# Altium footprint library SMPS150.PcbLib: 39 footprints (part 3 of 3)
Each footprint in its own frame and in the unit in brackets; x right, y up, seen from the top. Pads: shape width x height; smd on the part's side, far side on the other; paste and mask are expansions set on the pad; w line width, h text height; cw(c..) or ccw(c..) is an arc to the next point about the centre after c.
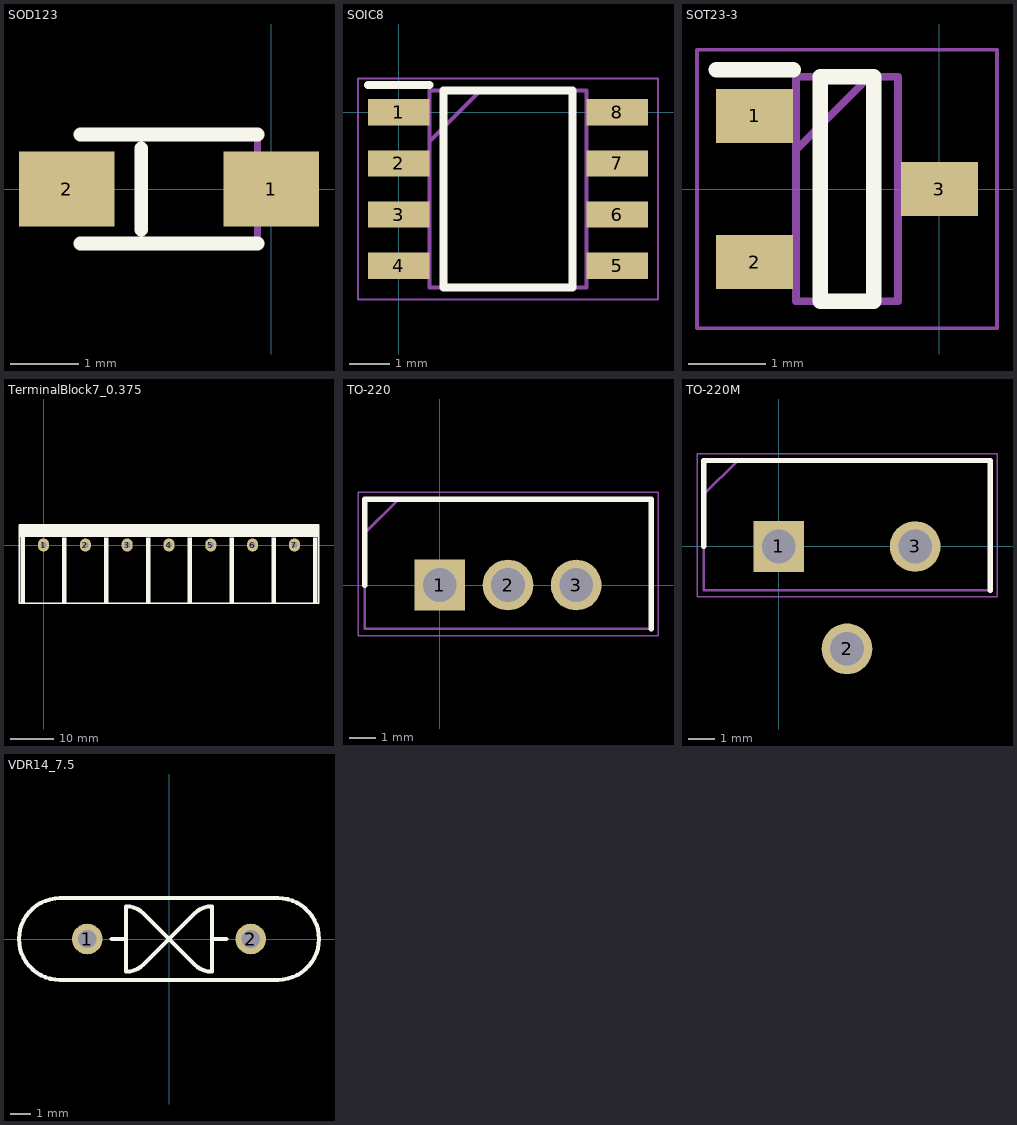
[diagram p2: the footprints below, top view; thin cyan lines are the x and y axes]

## SOD123 [mm]
height 1.35
pads (2):
  rect 1.4x1.1 smd: 1(0,0) 2(-3,0)
Top Overlay:
  lines w0.2: -2.8,-0.8 -0.2,-0.8 ; -2.8,0.8 -0.2,0.8 ; -1.905,-0.6 -1.905,0.6
Mechanical 13:
  lines w0.1: -2.8,-0.8 -0.2,-0.8 -0.2,0.8 -2.8,0.8
3D body "PMEG6010CEH.stp": height 1.2, standoff 0, extent -2.8,-0.8 -0.2,0.8

## SOIC8 [mm]
height 1.35
pads (8):
  rect 1.525x0.65 smd: 1(0,0) 2(0,-1.27) 3(0,-2.54) 4(0,-3.81) 5(5.424,-3.81) 6(5.424,-2.54) 7(5.424,-1.27) 8(5.424,0)
Top Overlay:
  lines w0.2: -0.763,0.675 0.762,0.675 ; 1.112,-4.355 1.112,0.545 4.312,0.545 4.312,-4.355 1.112,-4.355
Mechanical 13:
  lines w0.1: 0.762,-0.725 2.032,0.545 ; 0.762,-4.355 0.762,0.545 4.662,0.545 4.662,-4.355 0.762,-4.355
Mechanical 15:
  lines w0.05: -1.013,-4.655 -1.013,0.845 6.437,0.845 6.437,-4.655 -1.013,-4.655
3D body "User Library-so-8.STEP": height 1.89, standoff -0.01, extent -0.47,-4.454 5.869,0.55

## SOT23-3 [mm]
height 1.35
pads (3):
  rect 1x0.7 smd: 1(-2.4,0.95) 2(-2.4,-0.95) 3(0,0)
Top Overlay:
  lines w0.2: -2.9,1.55 -1.9,1.55 ; -1.55,-1.46 -0.85,-1.46 -0.85,1.46 -1.55,1.46 -1.55,-1.46
Mechanical 13:
  lines w0.1: -1.862,0.51 -0.912,1.46 ; -1.862,-1.46 -0.538,-1.46 -0.538,1.46 -1.862,1.46 -1.862,-1.46
Mechanical 15:
  lines w0.05: -3.15,-1.81 0.75,-1.81 0.75,1.81 -3.15,1.81 -3.15,-1.81
3D body "MMBT3906.stp": height 1.2, standoff 0, extent -2.4,-1.46 0,1.46

## TerminalBlock7_0.375 [mm]
height 1.35
pads (7):
  oval 2.5x3 hole 1.4: 1(0,0) 2(9.525,0) 3(19.05,0) 4(28.575,0) 5(38.1,0) 6(47.625,0) 7(57.15,0)
Top Overlay:
  rectangle: -5.588,1.778 62.738,4.572
  rectangle: 4.256,-13.091 5.272,1.768
  rectangle: 13.781,-13.091 14.797,1.768
  rectangle: 23.306,-13.091 24.322,1.768
  rectangle: 32.831,-13.091 33.847,1.768
  rectangle: 42.356,-13.091 43.372,1.768
  rectangle: 51.881,-13.091 52.897,1.768
  rectangle: 61.406,-13.091 62.422,1.768
  region: -4.256,1.788 -5.272,1.788 -5.272,-13.071 -4.256,-13.071
  lines w0.3: -5.588,-13.208 57.15,-13.208 62.738,-13.208 62.738,4.572 -5.588,4.572 -5.588,-13.208
3D body "c-1437653-7-p-3d.stp": height 15.88, standoff -5.08, extent -5.537,-13.208 62.687,4.572

## TO-220 [mm]
height 1.35
pads (3):
  rect 1.89x1.89 hole 1.26: 1(0,0)
  round 1.89 hole 1.26: 2(2.54,0) 3(5.08,0)
Top Overlay:
  lines w0.2: -2.795,0 -2.795,3.2 7.875,3.2 7.875,-1.63
Mechanical 13:
  lines w0.1: -2.795,1.93 -1.525,3.2 ; -2.795,-1.63 -2.795,3.2 7.875,3.2 7.875,-1.63 -2.795,-1.63
Mechanical 15:
  lines w0.05: -3.045,-1.88 -3.045,3.45 8.125,3.45 8.125,-1.88 -3.045,-1.88
3D body "2N6042.stp": height 18.9, standoff -18.99, extent -2.535,-1.63 7.615,3.2

## TO-220M [mm]
height 1.35
pads (3):
  rect 1.89x1.89 hole 1.26: 1(0,0)
  round 1.89 hole 1.26: 2(2.54,-3.81) 3(5.08,0)
Top Overlay:
  lines w0.2: -2.795,0 -2.795,3.2 7.875,3.2 7.875,-1.63
Mechanical 13:
  lines w0.1: -2.795,1.93 -1.525,3.2 ; -2.795,-1.63 -2.795,3.2 7.875,3.2 7.875,-1.63 -2.795,-1.63
Mechanical 15:
  lines w0.05: -3.045,-1.88 -3.045,3.45 8.125,3.45 8.125,-1.88 -3.045,-1.88
3D body "2N6042.stp": height 18.9, standoff -18.99, extent -2.535,-1.63 7.615,3.2

## VDR14_7.5 [mm]
height 1.35
pads (2):
  round 1.5 hole 0.9: 1(-4,0) 2(4,0)
Top Overlay:
  lines w0.2: -5.339,-2.002 cw(c-5.339,-0.002) -5.339,1.998 ; -5.339,-2 5.339,-2 ; -5.339,2 5.339,2 ; -2.8,0 -2.1,0 ; 2.1,0 2.8,0 ; 5.339,-1.998 ccw(c5.339,0.002) 5.339,2.002 ; -2.1,0 -2.1,1.6 cw(c-2.1,0.393) -1.246,1.246 1.246,-1.246 ccw(c2.1,-0.393) 2.1,-1.6 2.1,1.6 ccw(c2.1,0.393) 1.246,1.246 -1.246,-1.246 cw(c-2.1,-0.393) -2.1,-1.6 -2.1,0
3D body "Varistor.STEP": height -0.5, standoff -17.9, extent -7.4,-1.6 7.4,1.601